# EAGLE library part ADC128D818 (library DAWA-MAIN-7.0)
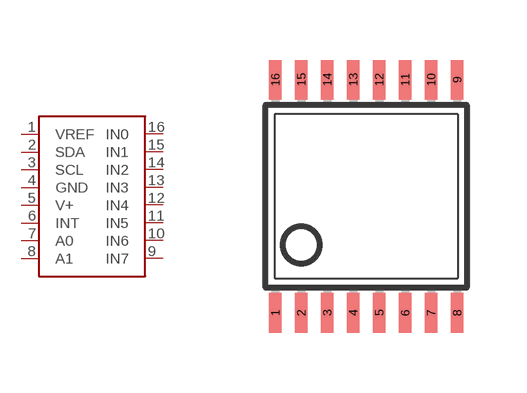
[diagram p2: symbol with the pads of ADC12_SD; footprint ADC12_SD]

Designator prefix U

## ADC128D818 (MPN: ADC128D818CIMTX/NOPB; URL_ALIEXPRESS: https://fr.aliexpress.com/item/32844743544.html)  [ADC12_SD]
1  VREF
2  SDA
3  SCL
4  GND
5  V+
6  INT
7  A0
8  A1
9  IN7
10  IN6
11  IN5
12  IN4
13  IN3
14  IN2
15  IN1
16  IN0

## Footprint ADC12_SD (pad centres in mm)
smd 0.305 x 0.991: 1 -2.275,-2.918; 2 -1.625,-2.918; 3 -0.975,-2.918; 4 -0.325,-2.918; 5 0.325,-2.918; 6 0.975,-2.918; 7 1.625,-2.918; 8 2.275,-2.918; 9 2.275,2.918; 10 1.625,2.918; 11 0.975,2.918; 12 0.325,2.918; 13 -0.325,2.918; 14 -0.975,2.918; 15 -1.625,2.918; 16 -2.275,2.918